# EAGLE library part DEVKITC (library esp32)
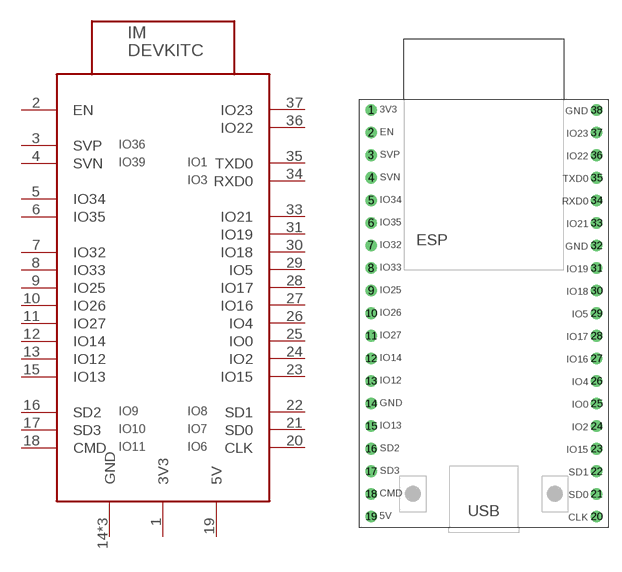
[diagram p3: symbol with the pads of DEVKITC; footprint DEVKITC]

Designator prefix IM

## DEVKITC  [DEVKITC]
1  3V3  pwr
2  EN  in
3  SVP  in
4  SVN  in
5  IO34  in
6  IO35  in
7  IO32
8  IO33
9  IO25
10  IO26
11  IO27
12  IO14
13  IO12
14  GND  pwr
15  IO13
16  SD2
17  SD3
18  CMD
19  5V  pwr
20  CLK
21  SD0
22  SD1
23  IO15
24  IO2
25  IO0
26  IO4
27  IO16
28  IO17
29  IO5
30  IO18
31  IO19
32  GND  pwr
33  IO21
34  RXD0
35  TXD0
36  IO22
37  IO23
38  GND  pwr

## Footprint DEVKITC (pad centres in mm)
drill 0.8: 1 -12.7,46.99; 2 -12.7,44.45; 3 -12.7,41.91; 4 -12.7,39.37; 5 -12.7,36.83; 6 -12.7,34.29; 7 -12.7,31.75; 8 -12.7,29.21; 9 -12.7,26.67; 10 -12.7,24.13; 11 -12.7,21.59; 12 -12.7,19.05; 13 -12.7,16.51; 14 -12.7,13.97; 15 -12.7,11.43; 16 -12.7,8.89; 17 -12.7,6.35; 18 -12.7,3.81; 19 -12.7,1.27; 20 12.7,1.27; 21 12.7,3.81; 22 12.7,6.35; 23 12.7,8.89; 24 12.7,11.43; 25 12.7,13.97; 26 12.7,16.51; 27 12.7,19.05; 28 12.7,21.59; 29 12.7,24.13; 30 12.7,26.67; 31 12.7,29.21; 32 12.7,31.75; 33 12.7,34.29; 34 12.7,36.83; 35 12.7,39.37; 36 12.7,41.91; 37 12.7,44.45; 38 12.7,46.99